# Altium footprint library PIC16F15225_I_MG.PcbLib: 1 footprints
Each footprint in its own frame and in the unit in brackets; x right, y up, seen from the top. Pads: shape width x height; smd on the part's side, far side on the other; paste and mask are expansions set on the pad; w line width, h text height; cw(c..) or ccw(c..) is an arc to the next point about the centre after c.
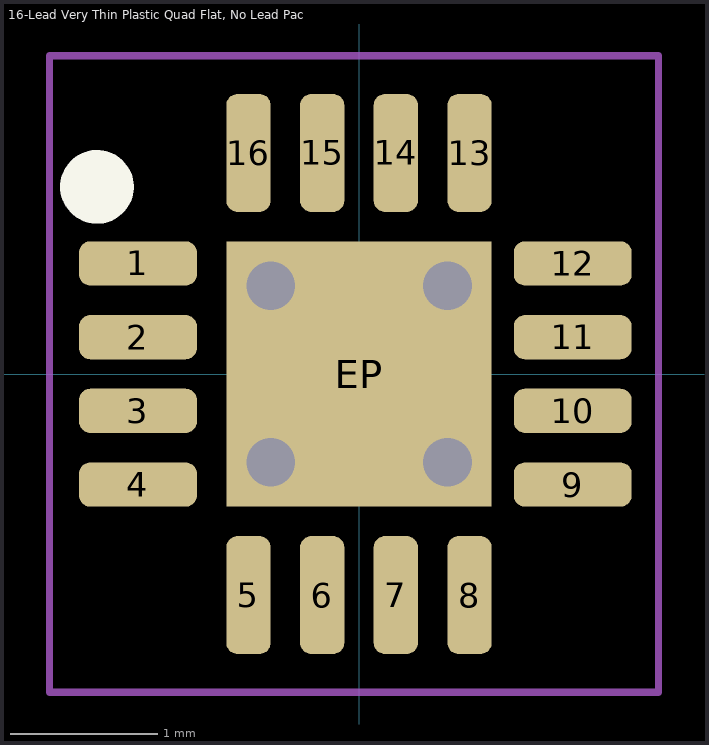
[diagram p0: the footprint, top view; thin cyan lines are the x and y axes]

## 16-Lead Very Thin Plastic Quad Flat, No Lead Package (RDB) - 3x3x0.9 mm Body [VQFN] [mm]
pads (17):
  rrect50% 0.8x0.3 smd: 1(-1.5,0.75) 2(-1.5,0.25) 3(-1.5,-0.25) 4(-1.5,-0.75) 9(1.45,-0.75) 10(1.45,-0.25) 11(1.45,0.25) 12(1.45,0.75)
  rrect50% 0.3x0.8 smd: 5(-0.75,-1.5) 6(-0.25,-1.5) 7(0.25,-1.5) 8(0.75,-1.5) 13(0.75,1.5) 14(0.25,1.5) 15(-0.25,1.5) 16(-0.75,1.5)
  rect 1.8x1.8 smd: EP(0,0)
via 0.6,-0.6 diameter 0.33 hole 0.33
via -0.6,-0.6 diameter 0.33 hole 0.33
via -0.6,0.6 diameter 0.33 hole 0.33
via 0.6,0.6 diameter 0.33 hole 0.33
Top Overlay:
  circle w0.25: c-1.778,1.27 r0.125
Mechanical 15:
  lines w0.05: -2.1,-2.159 -2.1,2.159 2.032,2.159 2.032,-2.159 -2.1,-2.159
3D body "VQFN-16 (RDB).STEP": height 0.97, standoff 0, extent -1.51,-1.51 1.51,1.51